# Altium footprint library TSSOP(PW).PcbLib: 37 footprints (part 1 of 3)
Each footprint in its own frame and in the unit in brackets; x right, y up, seen from the top. Pads: shape width x height; smd on the part's side, far side on the other; paste and mask are expansions set on the pad; w line width, h text height; cw(c..) or ccw(c..) is an arc to the next point about the centre after c.
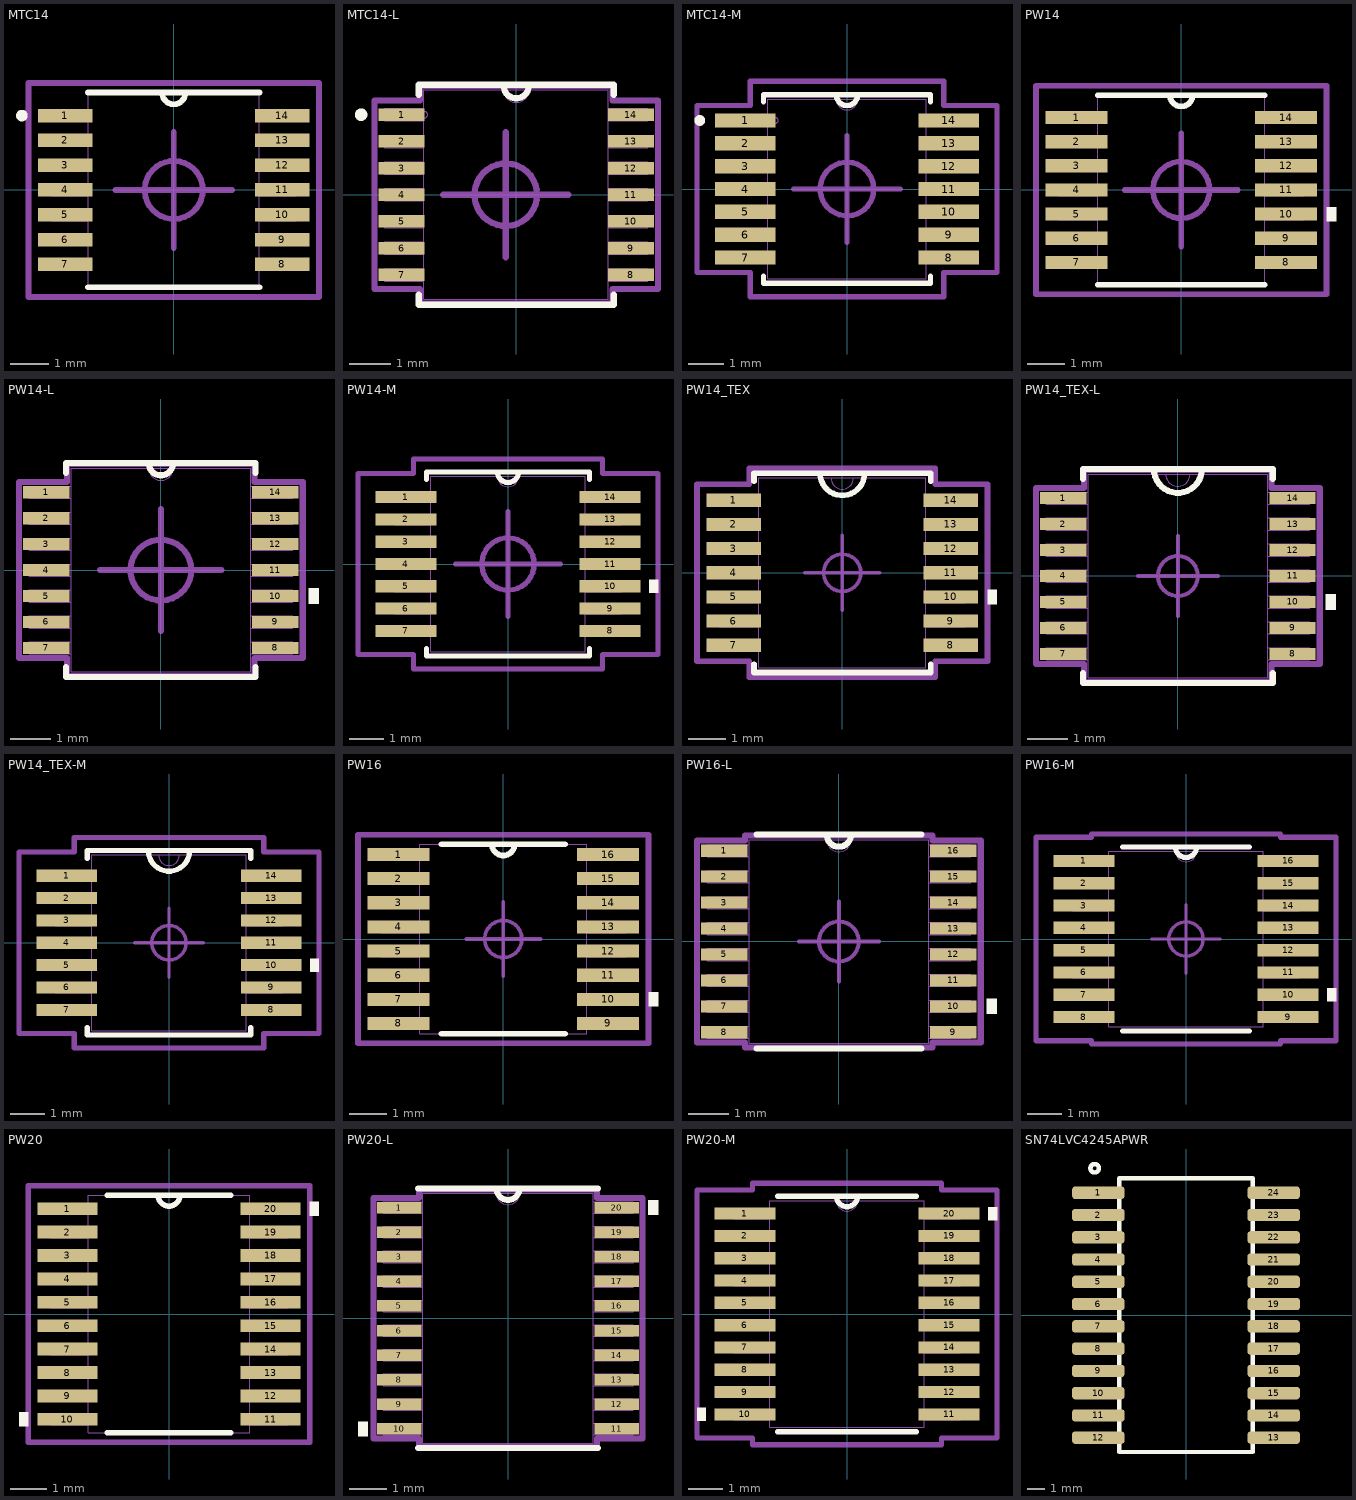
[diagram p0: the footprints below, top view; thin cyan lines are the x and y axes]

## MTC14 [mil]
pads (14):
  rect 56x14 smd: 1(-112,76.77) 2(-112,51.18) 3(-112,25.59) 4(-112,0) 5(-112,-25.59) 6(-112,-51.18) 7(-112,-76.77) 8(112,-76.77) 9(112,-51.18) 10(112,-25.59) 11(112,0) 12(112,25.59) 13(112,51.18) 14(112,76.77)
Top Overlay:
  circle w6: c-156.8,76.77 r3
  lines w6: -88.5,-100.5 88.5,-100.5 ; -88.5,100.5 88.5,100.5 ; -12,100.5 ccw(c0,100.5) 12,100.5
Mechanical 13:
  circle w0: c-156.8,76.77 r3
  lines w0: -12,100.5 ccw(c0,100.5) 12,100.5
  lines w1: -126,-82.77 -88.5,-82.77 -88.5,-70.77 -126,-70.77 -126,-82.77 ; -126,-57.18 -88.5,-57.18 -88.5,-45.18 -126,-45.18 -126,-57.18 ; -126,-31.59 -88.5,-31.59 -88.5,-19.59 -126,-19.59 -126,-31.59 ; -126,-6 -88.5,-6 -88.5,6 -126,6 -126,-6 ; -126,19.59 -88.5,19.59 -88.5,31.59 -126,31.59 -126,19.59 ; -126,45.18 -88.5,45.18 -88.5,57.18 -126,57.18 -126,45.18 ; -126,70.77 -88.5,70.77 -88.5,82.77 -126,82.77 -126,70.77 ; -88.5,-100.5 -88.5,100.5 88.5,100.5 88.5,-100.5 -88.5,-100.5 ; 88.5,-82.77 126,-82.77 126,-70.77 88.5,-70.77 88.5,-82.77 ; 88.5,-57.18 126,-57.18 126,-45.18 88.5,-45.18 88.5,-57.18 ; 88.5,-31.59 126,-31.59 126,-19.59 88.5,-19.59 88.5,-31.59 ; 88.5,-6 126,-6 126,6 88.5,6 88.5,-6 ; 88.5,19.59 126,19.59 126,31.59 88.5,31.59 88.5,19.59 ; 88.5,45.18 126,45.18 126,57.18 88.5,57.18 88.5,45.18 ; 88.5,70.77 126,70.77 126,82.77 88.5,82.77 88.5,70.77
Mechanical 15:
  circle w6: c0,0 r30
  lines w6: -60,0 60,0 ; 0,-60 0,60 ; -150,-110.5 150,-110.5 150,110.5 -150,110.5 -150,-110.5
3D body "MTC14.step": height 43.11, standoff 0, extent -125.98,-100.51 125.99,100.52

## MTC14-L [mil]
pads (14):
  rect 44x12 smd: 1(-110,76.77) 2(-110,51.18) 3(-110,25.59) 4(-110,0) 5(-110,-25.59) 6(-110,-51.18) 7(-110,-76.77) 8(110,-76.77) 9(110,-51.18) 10(110,-25.59) 11(110,0) 12(110,25.59) 13(110,51.18) 14(110,76.77)
Top Overlay:
  circle w6: c-148.8,76.77 r3
  lines w6: -93.5,-95.87 -93.5,-105.5 93.5,-105.5 93.5,-95.87 ; -93.5,95.87 -93.5,105.5 93.5,105.5 93.5,95.87 ; -12,104.5 ccw(c0,104.5) 12,104.5
Mechanical 13:
  circle w0: c-88,76.77 r3
  lines w0: -12,100.5 ccw(c0,100.5) 12,100.5
  lines w1: -126,-82.77 -88.5,-82.77 -88.5,-70.77 -126,-70.77 -126,-82.77 ; -126,-57.18 -88.5,-57.18 -88.5,-45.18 -126,-45.18 -126,-57.18 ; -126,-31.59 -88.5,-31.59 -88.5,-19.59 -126,-19.59 -126,-31.59 ; -126,-6 -88.5,-6 -88.5,6 -126,6 -126,-6 ; -126,19.59 -88.5,19.59 -88.5,31.59 -126,31.59 -126,19.59 ; -126,45.18 -88.5,45.18 -88.5,57.18 -126,57.18 -126,45.18 ; -126,70.77 -88.5,70.77 -88.5,82.77 -126,82.77 -126,70.77 ; -88.5,-100.5 -88.5,100.5 88.5,100.5 88.5,-100.5 -88.5,-100.5 ; 88.5,-82.77 126,-82.77 126,-70.77 88.5,-70.77 88.5,-82.77 ; 88.5,-57.18 126,-57.18 126,-45.18 88.5,-45.18 88.5,-57.18 ; 88.5,-31.59 126,-31.59 126,-19.59 88.5,-19.59 88.5,-31.59 ; 88.5,-6 126,-6 126,6 88.5,6 88.5,-6 ; 88.5,19.59 126,19.59 126,31.59 88.5,31.59 88.5,19.59 ; 88.5,45.18 126,45.18 126,57.18 88.5,57.18 88.5,45.18 ; 88.5,70.77 126,70.77 126,82.77 88.5,82.77 88.5,70.77
Mechanical 15:
  circle w6: c-10,0 r30
  lines w6: -70,0 50,0 ; -10,-60 -10,60 ; -136,-90.37 -92.5,-90.37 -92.5,-104.5 92.5,-104.5 92.5,-90.37 136,-90.37 136,90.37 92.5,90.37 92.5,104.5 -92.5,104.5 -92.5,90.37 -136,90.37 -136,-90.37
3D body "MTC14.step": height 43.11, standoff 0, extent -125.98,-100.51 125.99,100.52

## MTC14-M [mil]
pads (14):
  rect 68x16 smd: 1(-114,76.77) 2(-114,51.18) 3(-114,25.59) 4(-114,0) 5(-114,-25.59) 6(-114,-51.18) 7(-114,-76.77) 8(114,-76.77) 9(114,-51.18) 10(114,-25.59) 11(114,0) 12(114,25.59) 13(114,51.18) 14(114,76.77)
Top Overlay:
  circle w6: c-164.8,76.77 r3
  lines w6: -93.5,-97.87 -93.5,-105.5 93.5,-105.5 93.5,-97.87 ; -93.5,97.87 -93.5,105.5 93.5,105.5 93.5,97.87 ; -12,105.5 ccw(c0,105.5) 12,105.5
Mechanical 13:
  circle w0: c-80,76.77 r3
  lines w0: -12,100.5 ccw(c0,100.5) 12,100.5
  lines w1: -126,-82.77 -88.5,-82.77 -88.5,-70.77 -126,-70.77 -126,-82.77 ; -126,-57.18 -88.5,-57.18 -88.5,-45.18 -126,-45.18 -126,-57.18 ; -126,-31.59 -88.5,-31.59 -88.5,-19.59 -126,-19.59 -126,-31.59 ; -126,-6 -88.5,-6 -88.5,6 -126,6 -126,-6 ; -126,19.59 -88.5,19.59 -88.5,31.59 -126,31.59 -126,19.59 ; -126,45.18 -88.5,45.18 -88.5,57.18 -126,57.18 -126,45.18 ; -126,70.77 -88.5,70.77 -88.5,82.77 -126,82.77 -126,70.77 ; -88.5,-100.5 -88.5,100.5 88.5,100.5 88.5,-100.5 -88.5,-100.5 ; 88.5,-82.77 126,-82.77 126,-70.77 88.5,-70.77 88.5,-82.77 ; 88.5,-57.18 126,-57.18 126,-45.18 88.5,-45.18 88.5,-57.18 ; 88.5,-31.59 126,-31.59 126,-19.59 88.5,-19.59 88.5,-31.59 ; 88.5,-6 126,-6 126,6 88.5,6 88.5,-6 ; 88.5,19.59 126,19.59 126,31.59 88.5,31.59 88.5,19.59 ; 88.5,45.18 126,45.18 126,57.18 88.5,57.18 88.5,45.18 ; 88.5,70.77 126,70.77 126,82.77 88.5,82.77 88.5,70.77
Mechanical 15:
  circle w6: c0,0 r30
  lines w6: -60,0 60,0 ; 0,-60 0,60 ; -168,-93.57 -108.5,-93.57 -108.5,-120.5 108.5,-120.5 108.5,-93.57 168,-93.57 168,93.57 108.5,93.57 108.5,120.5 -108.5,120.5 -108.5,93.57 -168,93.57 -168,-93.57
3D body "MTC14.step": height 43.11, standoff 0, extent -125.98,-100.51 125.99,100.52

## PW14 [mil]
pads (14):
  rect 66x14 smd: 1(-111,76.77) 2(-111,51.18) 3(-111,25.59) 4(-111,0) 5(-111,-25.59) 6(-111,-51.18) 7(-111,-76.77) 8(111,-76.77) 9(111,-51.18) 10(111,-25.59) 11(111,0) 12(111,25.59) 13(111,51.18) 14(111,76.77)
Top Overlay:
  region: 154,-18.09 164,-18.09 164,-33.09 154,-33.09
  lines w6: -88.5,-100.5 88.5,-100.5 ; -88.5,100.5 88.5,100.5 ; -12,100.5 ccw(c0,100.5) 12,100.5
Mechanical 13:
  lines w0: -12,100.5 ccw(c0,100.5) 12,100.5
  lines w1: -130,-82.77 -88.5,-82.77 -88.5,-70.77 -130,-70.77 -130,-82.77 ; -130,-57.18 -88.5,-57.18 -88.5,-45.18 -130,-45.18 -130,-57.18 ; -130,-31.59 -88.5,-31.59 -88.5,-19.59 -130,-19.59 -130,-31.59 ; -130,-6 -88.5,-6 -88.5,6 -130,6 -130,-6 ; -130,19.59 -88.5,19.59 -88.5,31.59 -130,31.59 -130,19.59 ; -130,45.18 -88.5,45.18 -88.5,57.18 -130,57.18 -130,45.18 ; -130,70.77 -88.5,70.77 -88.5,82.77 -130,82.77 -130,70.77 ; -88.5,-100.5 -88.5,100.5 88.5,100.5 88.5,-100.5 -88.5,-100.5 ; 88.5,-82.77 130,-82.77 130,-70.77 88.5,-70.77 88.5,-82.77 ; 88.5,-57.18 130,-57.18 130,-45.18 88.5,-45.18 88.5,-57.18 ; 88.5,-31.59 130,-31.59 130,-19.59 88.5,-19.59 88.5,-31.59 ; 88.5,-6 130,-6 130,6 88.5,6 88.5,-6 ; 88.5,19.59 130,19.59 130,31.59 88.5,31.59 88.5,19.59 ; 88.5,45.18 130,45.18 130,57.18 88.5,57.18 88.5,45.18 ; 88.5,70.77 130,70.77 130,82.77 88.5,82.77 88.5,70.77
Mechanical 15:
  circle w6: c0,0 r30
  lines w6: -60,0 60,0 ; 0,-60 0,60 ; -154,-110.5 154,-110.5 154,110.5 -154,110.5 -154,-110.5
3D body "PW14.step": height 47.09, standoff 0, extent -130,-100.51 130,100.52

## PW14-L [mil]
pads (14):
  rect 46x12 smd: 1(-113,76.77) 2(-113,51.18) 3(-113,25.59) 4(-113,0) 5(-113,-25.59) 6(-113,-51.18) 7(-113,-76.77) 8(113,-76.77) 9(113,-51.18) 10(113,-25.59) 11(113,0) 12(113,25.59) 13(113,51.18) 14(113,76.77)
Top Overlay:
  region: 146,-18.09 156,-18.09 156,-33.09 146,-33.09
  lines w6: -93.5,-95.87 -93.5,-105.5 93.5,-105.5 93.5,-95.87 ; -93.5,95.87 -93.5,105.5 93.5,105.5 93.5,95.87 ; -12,105.5 ccw(c0,105.5) 12,105.5
Mechanical 13:
  lines w0: -12,100.5 ccw(c0,100.5) 12,100.5
  lines w1: -130,-82.77 -130,-70.77 -88.5,-70.77 -88.5,-82.77 -130,-82.77 ; -130,-57.18 -130,-45.18 -88.5,-45.18 -88.5,-57.18 -130,-57.18 ; -130,-31.59 -130,-19.59 -88.5,-19.59 -88.5,-31.59 -130,-31.59 ; -130,-6 -130,6 -88.5,6 -88.5,-6 -130,-6 ; -130,19.59 -130,31.59 -88.5,31.59 -88.5,19.59 -130,19.59 ; -130,45.18 -130,57.18 -88.5,57.18 -88.5,45.18 -130,45.18 ; -130,70.77 -130,82.77 -88.5,82.77 -88.5,70.77 -130,70.77 ; -88.5,-100.5 88.5,-100.5 88.5,100.5 -88.5,100.5 -88.5,-100.5 ; 88.5,-82.77 88.5,-70.77 130,-70.77 130,-82.77 88.5,-82.77 ; 88.5,-57.18 88.5,-45.18 130,-45.18 130,-57.18 88.5,-57.18 ; 88.5,-31.59 88.5,-19.59 130,-19.59 130,-31.59 88.5,-31.59 ; 88.5,-6 88.5,6 130,6 130,-6 88.5,-6 ; 88.5,19.59 88.5,31.59 130,31.59 130,19.59 88.5,19.59 ; 88.5,45.18 88.5,57.18 130,57.18 130,45.18 88.5,45.18 ; 88.5,70.77 88.5,82.77 130,82.77 130,70.77 88.5,70.77
Mechanical 15:
  circle w6: c0,0 r30
  lines w6: -60,0 60,0 ; 0,-60 0,60 ; -140,-86.77 -140,86.77 -92.5,86.77 -92.5,104.5 92.5,104.5 92.5,86.77 140,86.77 140,-86.77 92.5,-86.77 92.5,-104.5 -92.5,-104.5 -92.5,-86.77 -140,-86.77
3D body "PW14.step": height 47.09, standoff 0, extent -130,-100.51 130,100.52

## PW14-M [mil]
pads (14):
  rect 70x14 smd: 1(-117,76.77) 2(-117,51.18) 3(-117,25.59) 4(-117,0) 5(-117,-25.59) 6(-117,-51.18) 7(-117,-76.77) 8(117,-76.77) 9(117,-51.18) 10(117,-25.59) 11(117,0) 12(117,25.59) 13(117,51.18) 14(117,76.77)
Top Overlay:
  region: 162,-18.09 172,-18.09 172,-33.09 162,-33.09
  lines w6: -93.5,-96.87 -93.5,-105.5 93.5,-105.5 93.5,-96.87 ; -93.5,96.87 -93.5,105.5 93.5,105.5 93.5,96.87 ; -12,105.5 ccw(c0,105.5) 12,105.5
Mechanical 13:
  lines w0: -12,100.5 ccw(c0,100.5) 12,100.5
  lines w1: -130,-82.77 -88.5,-82.77 -88.5,-70.77 -130,-70.77 -130,-82.77 ; -130,-57.18 -88.5,-57.18 -88.5,-45.18 -130,-45.18 -130,-57.18 ; -130,-31.59 -88.5,-31.59 -88.5,-19.59 -130,-19.59 -130,-31.59 ; -130,-6 -88.5,-6 -88.5,6 -130,6 -130,-6 ; -130,19.59 -88.5,19.59 -88.5,31.59 -130,31.59 -130,19.59 ; -130,45.18 -88.5,45.18 -88.5,57.18 -130,57.18 -130,45.18 ; -130,70.77 -88.5,70.77 -88.5,82.77 -130,82.77 -130,70.77 ; -88.5,-100.5 -88.5,100.5 88.5,100.5 88.5,-100.5 -88.5,-100.5 ; 88.5,-82.77 130,-82.77 130,-70.77 88.5,-70.77 88.5,-82.77 ; 88.5,-57.18 130,-57.18 130,-45.18 88.5,-45.18 88.5,-57.18 ; 88.5,-31.59 130,-31.59 130,-19.59 88.5,-19.59 88.5,-31.59 ; 88.5,-6 130,-6 130,6 88.5,6 88.5,-6 ; 88.5,19.59 130,19.59 130,31.59 88.5,31.59 88.5,19.59 ; 88.5,45.18 130,45.18 130,57.18 88.5,57.18 88.5,45.18 ; 88.5,70.77 130,70.77 130,82.77 88.5,82.77 88.5,70.77
Mechanical 15:
  circle w6: c0,0 r30
  lines w6: -60,0 60,0 ; 0,-60 0,60 ; -172,-103.77 -108.5,-103.77 -108.5,-120.5 108.5,-120.5 108.5,-103.77 172,-103.77 172,103.77 108.5,103.77 108.5,120.5 -108.5,120.5 -108.5,103.77 -172,103.77 -172,-103.77
3D body "PW14.step": height 47.09, standoff 0, extent -130,-100.51 130,100.52

## PW14_TEX [mil]
pads (14):
  rect 57.56x13.97 smd: 1(-115,76.77) 2(-115,51.18) 3(-115,25.59) 4(-115,0) 5(-115,-25.59) 6(-115,-51.18) 7(-115,-76.77) 8(115,-76.77) 9(115,-51.18) 10(115,-25.59) 11(115,0) 12(115,25.59) 13(115,51.18) 14(115,76.77)
Top Overlay:
  region: 153.78,-18.09 163.78,-18.09 163.78,-33.09 153.78,-33.09
  lines w5.98: -23.62,105.5 ccw(c0,105.5) 23.62,105.5
  lines w6: -93.5,-96.86 -93.5,-105.5 93.5,-105.5 93.5,-96.86 ; -93.5,96.86 -93.5,105.5 93.5,105.5 93.5,96.86
Mechanical 13:
  lines w0: -12,100.5 ccw(c0,100.5) 12,100.5
  lines w1: -130,-82.77 -130,-70.77 -88.5,-70.77 -88.5,-82.77 -130,-82.77 ; -130,-57.18 -130,-45.18 -88.5,-45.18 -88.5,-57.18 -130,-57.18 ; -130,-31.59 -130,-19.59 -88.5,-19.59 -88.5,-31.59 -130,-31.59 ; -130,-6 -130,6 -88.5,6 -88.5,-6 -130,-6 ; -130,19.59 -130,31.59 -88.5,31.59 -88.5,19.59 -130,19.59 ; -130,45.18 -130,57.18 -88.5,57.18 -88.5,45.18 -130,45.18 ; -130,70.77 -130,82.77 -88.5,82.77 -88.5,70.77 -130,70.77 ; -88.5,-100.5 88.5,-100.5 88.5,100.5 -88.5,100.5 -88.5,-100.5 ; 88.5,-82.77 88.5,-70.77 130,-70.77 130,-82.77 88.5,-82.77 ; 88.5,-57.18 88.5,-45.18 130,-45.18 130,-57.18 88.5,-57.18 ; 88.5,-31.59 88.5,-19.59 130,-19.59 130,-31.59 88.5,-31.59 ; 88.5,-6 88.5,6 130,6 130,-6 88.5,-6 ; 88.5,19.59 88.5,31.59 130,31.59 130,19.59 88.5,19.59 ; 88.5,45.18 88.5,57.18 130,57.18 130,45.18 88.5,45.18 ; 88.5,70.77 88.5,82.77 130,82.77 130,70.77 88.5,70.77
Mechanical 15:
  circle w3.94: c0,0 r19.68
  lines w3.94: -39.37,0 0,0 ; 0,-39.37 0,0 ; 0,39.37 0,0 ; 39.37,0 0,0
  lines w6: -153.78,-93.76 -153.78,93.76 -98.5,93.76 -98.5,110.5 98.5,110.5 98.5,93.76 153.78,93.76 153.78,-93.76 98.5,-93.76 98.5,-110.5 -98.5,-110.5 -98.5,-93.76 -153.78,-93.76
3D body "PW14_TEX.step": height 47.09, standoff 0, extent -129.99,-100.51 130.01,100.52

## PW14_TEX-L [mil]
pads (14):
  rect 45.75x12 smd: 1(-113.03,76.77) 2(-113.03,51.18) 3(-113.03,25.59) 4(-113.03,0) 5(-113.03,-25.59) 6(-113.03,-51.18) 7(-113.03,-76.77) 8(113.03,-76.77) 9(113.03,-51.18) 10(113.03,-25.59) 11(113.03,0) 12(113.03,25.59) 13(113.03,51.18) 14(113.03,76.77)
Top Overlay:
  region: 145.91,-18.09 155.91,-18.09 155.91,-33.09 145.91,-33.09
  lines w5.98: -23.62,105.5 ccw(c0,105.5) 23.62,105.5
  lines w6: -93.5,-95.87 -93.5,-105.5 93.5,-105.5 93.5,-95.87 ; -93.5,95.87 -93.5,105.5 93.5,105.5 93.5,95.87
Mechanical 13:
  lines w0: -12,100.5 ccw(c0,100.5) 12,100.5
  lines w1: -130,-82.77 -130,-70.77 -88.5,-70.77 -88.5,-82.77 -130,-82.77 ; -130,-57.18 -130,-45.18 -88.5,-45.18 -88.5,-57.18 -130,-57.18 ; -130,-31.59 -130,-19.59 -88.5,-19.59 -88.5,-31.59 -130,-31.59 ; -130,-6 -130,6 -88.5,6 -88.5,-6 -130,-6 ; -130,19.59 -130,31.59 -88.5,31.59 -88.5,19.59 -130,19.59 ; -130,45.18 -130,57.18 -88.5,57.18 -88.5,45.18 -130,45.18 ; -130,70.77 -130,82.77 -88.5,82.77 -88.5,70.77 -130,70.77 ; -88.5,-100.5 88.5,-100.5 88.5,100.5 -88.5,100.5 -88.5,-100.5 ; 88.5,-82.77 88.5,-70.77 130,-70.77 130,-82.77 88.5,-82.77 ; 88.5,-57.18 88.5,-45.18 130,-45.18 130,-57.18 88.5,-57.18 ; 88.5,-31.59 88.5,-19.59 130,-19.59 130,-31.59 88.5,-31.59 ; 88.5,-6 88.5,6 130,6 130,-6 88.5,-6 ; 88.5,19.59 88.5,31.59 130,31.59 130,19.59 88.5,19.59 ; 88.5,45.18 88.5,57.18 130,57.18 130,45.18 88.5,45.18 ; 88.5,70.77 88.5,82.77 130,82.77 130,70.77 88.5,70.77
Mechanical 15:
  circle w3.94: c0,0 r19.68
  lines w3.94: -39.37,0 0,0 ; 0,-39.37 0,0 ; 0,39.37 0,0 ; 39.37,0 0,0
  lines w6: -139.91,-86.77 -139.91,86.77 -92.5,86.77 -92.5,104.5 92.5,104.5 92.5,86.77 139.91,86.77 139.91,-86.77 92.5,-86.77 92.5,-104.5 -92.5,-104.5 -92.5,-86.77 -139.91,-86.77
3D body "PW14_TEX.step": height 47.09, standoff 0, extent -129.99,-100.51 130.01,100.52

## PW14_TEX-M [mm]
pads (14):
  rect 1.762x0.355 smd: 1(-2.971,1.95) 2(-2.971,1.3) 3(-2.971,0.65) 4(-2.971,0) 5(-2.971,-0.65) 6(-2.971,-1.3) 7(-2.971,-1.95) 8(2.971,-1.95) 9(2.971,-1.3) 10(2.971,-0.65) 11(2.971,0) 12(2.971,0.65) 13(2.971,1.3) 14(2.971,1.95)
Top Overlay:
  region: 4.106,-0.459 4.36,-0.459 4.36,-0.84 4.106,-0.84
  lines w0.152: -2.375,-2.46 -2.375,-2.68 2.375,-2.68 2.375,-2.46 ; -2.375,2.46 -2.375,2.68 2.375,2.68 2.375,2.46 ; -0.6,2.68 ccw(c0,2.68) 0.6,2.68
Mechanical 13:
  lines w0: -0.305,2.553 ccw(c0,2.553) 0.305,2.553
  lines w0.025: -3.302,-2.102 -2.248,-2.102 -2.248,-1.798 -3.302,-1.798 -3.302,-2.102 ; -3.302,-1.452 -2.248,-1.452 -2.248,-1.148 -3.302,-1.148 -3.302,-1.452 ; -3.302,-0.802 -2.248,-0.802 -2.248,-0.498 -3.302,-0.498 -3.302,-0.802 ; -3.302,-0.152 -2.248,-0.152 -2.248,0.152 -3.302,0.152 -3.302,-0.152 ; -3.302,0.498 -2.248,0.498 -2.248,0.802 -3.302,0.802 -3.302,0.498 ; -3.302,1.148 -2.248,1.148 -2.248,1.452 -3.302,1.452 -3.302,1.148 ; -3.302,1.798 -2.248,1.798 -2.248,2.102 -3.302,2.102 -3.302,1.798 ; -2.248,-2.553 -2.248,2.553 2.248,2.553 2.248,-2.553 -2.248,-2.553 ; 2.248,-2.102 3.302,-2.102 3.302,-1.798 2.248,-1.798 2.248,-2.102 ; 2.248,-1.452 3.302,-1.452 3.302,-1.148 2.248,-1.148 2.248,-1.452 ; 2.248,-0.802 3.302,-0.802 3.302,-0.498 2.248,-0.498 2.248,-0.802 ; 2.248,-0.152 3.302,-0.152 3.302,0.152 2.248,0.152 2.248,-0.152 ; 2.248,0.498 3.302,0.498 3.302,0.802 2.248,0.802 2.248,0.498 ; 2.248,1.148 3.302,1.148 3.302,1.452 2.248,1.452 2.248,1.148 ; 2.248,1.798 3.302,1.798 3.302,2.102 2.248,2.102 2.248,1.798
Mechanical 15:
  circle w0.1: c0,0 r0.5
  lines w0.1: -1,0 0,0 ; 0,-1 0,0 ; 0,1 0,0 ; 1,0 0,0
  lines w0.152: -4.36,-2.635 -2.756,-2.635 -2.756,-3.061 2.756,-3.061 2.756,-2.635 4.36,-2.635 4.36,2.635 2.756,2.635 2.756,3.061 -2.756,3.061 -2.756,2.635 -4.36,2.635 -4.36,-2.635
3D body "PW14_TEX.step": height 1.2, standoff 0, extent -3.302,-2.553 3.302,2.553

## PW16 [mil]
pads (16):
  rect 66x14 smd: 1(-111,89.57) 2(-111,63.98) 3(-111,38.39) 4(-111,12.8) 5(-111,-12.8) 6(-111,-38.39) 7(-111,-63.98) 8(-111,-89.57) 9(111,-89.57) 10(111,-63.98) 11(111,-38.39) 12(111,-12.8) 13(111,12.8) 14(111,38.39) 15(111,63.98) 16(111,89.57)
Top Overlay:
  region: 154,-56.48 164,-56.48 164,-71.48 154,-71.48
  lines w6: -65.5,-100.5 65.5,-100.5 ; -65.5,100.5 65.5,100.5 ; -12,100.5 ccw(c0,100.5) 12,100.5
Mechanical 13:
  lines w0: -12,100.5 ccw(c0,100.5) 12,100.5
  lines w1: -130,-95.57 -88.5,-95.57 -88.5,-83.57 -130,-83.57 -130,-95.57 ; -130,-69.98 -88.5,-69.98 -88.5,-57.98 -130,-57.98 -130,-69.98 ; -130,-44.39 -88.5,-44.39 -88.5,-32.39 -130,-32.39 -130,-44.39 ; -130,-18.8 -88.5,-18.8 -88.5,-6.8 -130,-6.8 -130,-18.8 ; -130,6.8 -88.5,6.8 -88.5,18.8 -130,18.8 -130,6.8 ; -130,32.39 -88.5,32.39 -88.5,44.39 -130,44.39 -130,32.39 ; -130,57.98 -88.5,57.98 -88.5,69.98 -130,69.98 -130,57.98 ; -130,83.57 -88.5,83.57 -88.5,95.57 -130,95.57 -130,83.57 ; -88.5,-100.5 -88.5,100.5 88.5,100.5 88.5,-100.5 -88.5,-100.5 ; 88.5,-95.57 130,-95.57 130,-83.57 88.5,-83.57 88.5,-95.57 ; 88.5,-69.98 130,-69.98 130,-57.98 88.5,-57.98 88.5,-69.98 ; 88.5,-44.39 130,-44.39 130,-32.39 88.5,-32.39 88.5,-44.39 ; 88.5,-18.8 130,-18.8 130,-6.8 88.5,-6.8 88.5,-18.8 ; 88.5,6.8 130,6.8 130,18.8 88.5,18.8 88.5,6.8 ; 88.5,32.39 130,32.39 130,44.39 88.5,44.39 88.5,32.39 ; 88.5,57.98 130,57.98 130,69.98 88.5,69.98 88.5,57.98 ; 88.5,83.57 130,83.57 130,95.57 88.5,95.57 88.5,83.57
Mechanical 15:
  circle w3.94: c0,0 r19.68
  lines w3.94: -39.37,0 0,0 ; 0,-39.37 0,0 ; 0,39.37 0,0 ; 39.37,0 0,0
  lines w6: -154,-110.5 154,-110.5 154,110.5 -154,110.5 -154,-110.5
3D body "PW16.step": height 47.09, standoff 0, extent -130,-100.51 130,100.52

## PW16-L [mil]
pads (16):
  rect 46x12 smd: 1(-113,89.57) 2(-113,63.98) 3(-113,38.39) 4(-113,12.8) 5(-113,-12.8) 6(-113,-38.39) 7(-113,-63.98) 8(-113,-89.57) 9(113,-89.57) 10(113,-63.98) 11(113,-38.39) 12(113,-12.8) 13(113,12.8) 14(113,38.39) 15(113,63.98) 16(113,89.57)
Top Overlay:
  region: 146,-56.48 156,-56.48 156,-71.48 146,-71.48
  lines w6: -81.46,-105.5 81.46,-105.5 ; -81.46,105.5 81.46,105.5 ; -12,105.5 ccw(c0,105.5) 12,105.5
Mechanical 13:
  lines w0: -12,100.5 ccw(c0,100.5) 12,100.5
  lines w1: -130,-95.57 -88.5,-95.57 -88.5,-83.57 -130,-83.57 -130,-95.57 ; -130,-69.98 -88.5,-69.98 -88.5,-57.98 -130,-57.98 -130,-69.98 ; -130,-44.39 -88.5,-44.39 -88.5,-32.39 -130,-32.39 -130,-44.39 ; -130,-18.8 -88.5,-18.8 -88.5,-6.8 -130,-6.8 -130,-18.8 ; -130,6.8 -88.5,6.8 -88.5,18.8 -130,18.8 -130,6.8 ; -130,32.39 -88.5,32.39 -88.5,44.39 -130,44.39 -130,32.39 ; -130,57.98 -88.5,57.98 -88.5,69.98 -130,69.98 -130,57.98 ; -130,83.57 -88.5,83.57 -88.5,95.57 -130,95.57 -130,83.57 ; -88.5,-100.5 -88.5,100.5 88.5,100.5 88.5,-100.5 -88.5,-100.5 ; 88.5,-95.57 130,-95.57 130,-83.57 88.5,-83.57 88.5,-95.57 ; 88.5,-69.98 130,-69.98 130,-57.98 88.5,-57.98 88.5,-69.98 ; 88.5,-44.39 130,-44.39 130,-32.39 88.5,-32.39 88.5,-44.39 ; 88.5,-18.8 130,-18.8 130,-6.8 88.5,-6.8 88.5,-18.8 ; 88.5,6.8 130,6.8 130,18.8 88.5,18.8 88.5,6.8 ; 88.5,32.39 130,32.39 130,44.39 88.5,44.39 88.5,32.39 ; 88.5,57.98 130,57.98 130,69.98 88.5,69.98 88.5,57.98 ; 88.5,83.57 130,83.57 130,95.57 88.5,95.57 88.5,83.57
Mechanical 15:
  circle w3.94: c0,0 r19.68
  lines w3.94: -39.37,0 0,0 ; 0,-39.37 0,0 ; 0,39.37 0,0 ; 39.37,0 0,0
  lines w6: -140,-99.57 -92.5,-99.57 -92.5,-104.5 92.5,-104.5 92.5,-99.57 140,-99.57 140,99.57 92.5,99.57 92.5,104.5 -92.5,104.5 -92.5,99.57 -140,99.57 -140,-99.57
3D body "PW16.step": height 47.09, standoff 0, extent -130,-100.51 130,100.52

## PW16-M [mil]
pads (16):
  rect 70x14 smd: 1(-117,89.57) 2(-117,63.98) 3(-117,38.39) 4(-117,12.8) 5(-117,-12.8) 6(-117,-38.39) 7(-117,-63.98) 8(-117,-89.57) 9(117,-89.57) 10(117,-63.98) 11(117,-38.39) 12(117,-12.8) 13(117,12.8) 14(117,38.39) 15(117,63.98) 16(117,89.57)
Top Overlay:
  region: 162,-56.48 172,-56.48 172,-71.48 162,-71.48
  lines w6: -72.42,-105.5 72.42,-105.5 ; -72.42,105.5 72.42,105.5 ; -12,105.5 ccw(c0,105.5) 12,105.5
Mechanical 13:
  lines w0: -12,100.5 ccw(c0,100.5) 12,100.5
  lines w1: -130,-95.57 -88.5,-95.57 -88.5,-83.57 -130,-83.57 -130,-95.57 ; -130,-69.98 -88.5,-69.98 -88.5,-57.98 -130,-57.98 -130,-69.98 ; -130,-44.39 -88.5,-44.39 -88.5,-32.39 -130,-32.39 -130,-44.39 ; -130,-18.8 -88.5,-18.8 -88.5,-6.8 -130,-6.8 -130,-18.8 ; -130,6.8 -88.5,6.8 -88.5,18.8 -130,18.8 -130,6.8 ; -130,32.39 -88.5,32.39 -88.5,44.39 -130,44.39 -130,32.39 ; -130,57.98 -88.5,57.98 -88.5,69.98 -130,69.98 -130,57.98 ; -130,83.57 -88.5,83.57 -88.5,95.57 -130,95.57 -130,83.57 ; -88.5,-100.5 -88.5,100.5 88.5,100.5 88.5,-100.5 -88.5,-100.5 ; 88.5,-95.57 130,-95.57 130,-83.57 88.5,-83.57 88.5,-95.57 ; 88.5,-69.98 130,-69.98 130,-57.98 88.5,-57.98 88.5,-69.98 ; 88.5,-44.39 130,-44.39 130,-32.39 88.5,-32.39 88.5,-44.39 ; 88.5,-18.8 130,-18.8 130,-6.8 88.5,-6.8 88.5,-18.8 ; 88.5,6.8 130,6.8 130,18.8 88.5,18.8 88.5,6.8 ; 88.5,32.39 130,32.39 130,44.39 88.5,44.39 88.5,32.39 ; 88.5,57.98 130,57.98 130,69.98 88.5,69.98 88.5,57.98 ; 88.5,83.57 130,83.57 130,95.57 88.5,95.57 88.5,83.57
Mechanical 15:
  circle w3.94: c0,0 r19.68
  lines w3.94: -39.37,0 0,0 ; 0,-39.37 0,0 ; 0,39.37 0,0 ; 39.37,0 0,0
  lines w6: -172,-116.57 -108.5,-116.57 -108.5,-120.5 108.5,-120.5 108.5,-116.57 172,-116.57 172,116.57 108.5,116.57 108.5,120.5 -108.5,120.5 -108.5,116.57 -172,116.57 -172,-116.57
3D body "PW16.step": height 47.09, standoff 0, extent -130,-100.51 130,100.52

## PW20 [mil]
pads (20):
  rect 66x14 smd: 1(-111,115.16) 2(-111,89.57) 3(-111,63.98) 4(-111,38.39) 5(-111,12.8) 6(-111,-12.8) 7(-111,-38.39) 8(-111,-63.98) 9(-111,-89.57) 10(-111,-115.16) 11(111,-115.16) 12(111,-89.57) 13(111,-63.98) 14(111,-38.39) 15(111,-12.8) 16(111,12.8) 17(111,38.39) 18(111,63.98) 19(111,89.57) 20(111,115.16)
Top Overlay:
  region: 154,122.66 164,122.66 164,107.66 154,107.66
  region: -154,-107.66 -164,-107.66 -164,-122.66 -154,-122.66
  lines w6: -67.51,-130 67.51,-130 ; -67.51,130 67.51,130 ; -12,130 ccw(c0,130) 12,130
Mechanical 13:
  lines w0: -12,130 ccw(c0,130) 12,130
  lines w1: -130,-121.16 -88.5,-121.16 -88.5,-109.16 -130,-109.16 -130,-121.16 ; -130,-95.57 -88.5,-95.57 -88.5,-83.57 -130,-83.57 -130,-95.57 ; -130,-69.98 -88.5,-69.98 -88.5,-57.98 -130,-57.98 -130,-69.98 ; -130,-44.39 -88.5,-44.39 -88.5,-32.39 -130,-32.39 -130,-44.39 ; -130,-18.8 -88.5,-18.8 -88.5,-6.8 -130,-6.8 -130,-18.8 ; -130,6.8 -88.5,6.8 -88.5,18.8 -130,18.8 -130,6.8 ; -130,32.39 -88.5,32.39 -88.5,44.39 -130,44.39 -130,32.39 ; -130,57.98 -88.5,57.98 -88.5,69.98 -130,69.98 -130,57.98 ; -130,83.57 -88.5,83.57 -88.5,95.57 -130,95.57 -130,83.57 ; -130,109.16 -88.5,109.16 -88.5,121.16 -130,121.16 -130,109.16 ; -88.5,-130 -88.5,130 88.5,130 88.5,-130 -88.5,-130 ; 88.5,-121.16 130,-121.16 130,-109.16 88.5,-109.16 88.5,-121.16 ; 88.5,-95.57 130,-95.57 130,-83.57 88.5,-83.57 88.5,-95.57 ; 88.5,-69.98 130,-69.98 130,-57.98 88.5,-57.98 88.5,-69.98 ; 88.5,-44.39 130,-44.39 130,-32.39 88.5,-32.39 88.5,-44.39 ; 88.5,-18.8 130,-18.8 130,-6.8 88.5,-6.8 88.5,-18.8 ; 88.5,6.8 130,6.8 130,18.8 88.5,18.8 88.5,6.8 ; 88.5,32.39 130,32.39 130,44.39 88.5,44.39 88.5,32.39 ; 88.5,57.98 130,57.98 130,69.98 88.5,69.98 88.5,57.98 ; 88.5,83.57 130,83.57 130,95.57 88.5,95.57 88.5,83.57 ; 88.5,109.16 130,109.16 130,121.16 88.5,121.16 88.5,109.16
Mechanical 15:
  lines w6: -154,-140 154,-140 154,140 -154,140 -154,-140
3D body "PW20.step": height 47.09, standoff 0, extent -130,-130 130,130

## PW20-L [mil]
pads (20):
  rect 46x12 smd: 1(-113,115.16) 2(-113,89.57) 3(-113,63.98) 4(-113,38.39) 5(-113,12.8) 6(-113,-12.8) 7(-113,-38.39) 8(-113,-63.98) 9(-113,-89.57) 10(-113,-115.16) 11(113,-115.16) 12(113,-89.57) 13(113,-63.98) 14(113,-38.39) 15(113,-12.8) 16(113,12.8) 17(113,38.39) 18(113,63.98) 19(113,89.57) 20(113,115.16)
Top Overlay:
  region: 146,122.66 156,122.66 156,107.66 146,107.66
  region: -146,-107.66 -156,-107.66 -156,-122.66 -146,-122.66
  lines w6: -93.5,-135 93.5,-135 ; -93.5,135 93.5,135 ; -12,135 ccw(c0,135) 12,135
Mechanical 13:
  lines w0: -12,130 ccw(c0,130) 12,130
  lines w1: -130,-121.16 -88.5,-121.16 -88.5,-109.16 -130,-109.16 -130,-121.16 ; -130,-95.57 -88.5,-95.57 -88.5,-83.57 -130,-83.57 -130,-95.57 ; -130,-69.98 -88.5,-69.98 -88.5,-57.98 -130,-57.98 -130,-69.98 ; -130,-44.39 -88.5,-44.39 -88.5,-32.39 -130,-32.39 -130,-44.39 ; -130,-18.8 -88.5,-18.8 -88.5,-6.8 -130,-6.8 -130,-18.8 ; -130,6.8 -88.5,6.8 -88.5,18.8 -130,18.8 -130,6.8 ; -130,32.39 -88.5,32.39 -88.5,44.39 -130,44.39 -130,32.39 ; -130,57.98 -88.5,57.98 -88.5,69.98 -130,69.98 -130,57.98 ; -130,83.57 -88.5,83.57 -88.5,95.57 -130,95.57 -130,83.57 ; -130,109.16 -88.5,109.16 -88.5,121.16 -130,121.16 -130,109.16 ; -88.5,-130 -88.5,130 88.5,130 88.5,-130 -88.5,-130 ; 88.5,-121.16 130,-121.16 130,-109.16 88.5,-109.16 88.5,-121.16 ; 88.5,-95.57 130,-95.57 130,-83.57 88.5,-83.57 88.5,-95.57 ; 88.5,-69.98 130,-69.98 130,-57.98 88.5,-57.98 88.5,-69.98 ; 88.5,-44.39 130,-44.39 130,-32.39 88.5,-32.39 88.5,-44.39 ; 88.5,-18.8 130,-18.8 130,-6.8 88.5,-6.8 88.5,-18.8 ; 88.5,6.8 130,6.8 130,18.8 88.5,18.8 88.5,6.8 ; 88.5,32.39 130,32.39 130,44.39 88.5,44.39 88.5,32.39 ; 88.5,57.98 130,57.98 130,69.98 88.5,69.98 88.5,57.98 ; 88.5,83.57 130,83.57 130,95.57 88.5,95.57 88.5,83.57 ; 88.5,109.16 130,109.16 130,121.16 88.5,121.16 88.5,109.16
Mechanical 15:
  lines w6: -140,-125.16 -92.5,-125.16 -92.5,-134 92.5,-134 92.5,-125.16 140,-125.16 140,125.16 92.5,125.16 92.5,134 -92.5,134 -92.5,125.16 -140,125.16 -140,-125.16
3D body "PW20.step": height 47.09, standoff 0, extent -130,-130 130,130

## PW20-M [mil]
pads (20):
  rect 70x14 smd: 1(-117,115.16) 2(-117,89.57) 3(-117,63.98) 4(-117,38.39) 5(-117,12.8) 6(-117,-12.8) 7(-117,-38.39) 8(-117,-63.98) 9(-117,-89.57) 10(-117,-115.16) 11(117,-115.16) 12(117,-89.57) 13(117,-63.98) 14(117,-38.39) 15(117,-12.8) 16(117,12.8) 17(117,38.39) 18(117,63.98) 19(117,89.57) 20(117,115.16)
Top Overlay:
  region: 162,122.66 172,122.66 172,107.66 162,107.66
  region: -162,-107.66 -172,-107.66 -172,-122.66 -162,-122.66
  lines w6: -79.42,-135 79.42,-135 ; -79.42,135 79.42,135 ; -12,135 ccw(c0,135) 12,135
Mechanical 13:
  lines w0: -12,130 ccw(c0,130) 12,130
  lines w1: -130,-121.16 -88.5,-121.16 -88.5,-109.16 -130,-109.16 -130,-121.16 ; -130,-95.57 -88.5,-95.57 -88.5,-83.57 -130,-83.57 -130,-95.57 ; -130,-69.98 -88.5,-69.98 -88.5,-57.98 -130,-57.98 -130,-69.98 ; -130,-44.39 -88.5,-44.39 -88.5,-32.39 -130,-32.39 -130,-44.39 ; -130,-18.8 -88.5,-18.8 -88.5,-6.8 -130,-6.8 -130,-18.8 ; -130,6.8 -88.5,6.8 -88.5,18.8 -130,18.8 -130,6.8 ; -130,32.39 -88.5,32.39 -88.5,44.39 -130,44.39 -130,32.39 ; -130,57.98 -88.5,57.98 -88.5,69.98 -130,69.98 -130,57.98 ; -130,83.57 -88.5,83.57 -88.5,95.57 -130,95.57 -130,83.57 ; -130,109.16 -88.5,109.16 -88.5,121.16 -130,121.16 -130,109.16 ; -88.5,-130 -88.5,130 88.5,130 88.5,-130 -88.5,-130 ; 88.5,-121.16 130,-121.16 130,-109.16 88.5,-109.16 88.5,-121.16 ; 88.5,-95.57 130,-95.57 130,-83.57 88.5,-83.57 88.5,-95.57 ; 88.5,-69.98 130,-69.98 130,-57.98 88.5,-57.98 88.5,-69.98 ; 88.5,-44.39 130,-44.39 130,-32.39 88.5,-32.39 88.5,-44.39 ; 88.5,-18.8 130,-18.8 130,-6.8 88.5,-6.8 88.5,-18.8 ; 88.5,6.8 130,6.8 130,18.8 88.5,18.8 88.5,6.8 ; 88.5,32.39 130,32.39 130,44.39 88.5,44.39 88.5,32.39 ; 88.5,57.98 130,57.98 130,69.98 88.5,69.98 88.5,57.98 ; 88.5,83.57 130,83.57 130,95.57 88.5,95.57 88.5,83.57 ; 88.5,109.16 130,109.16 130,121.16 88.5,121.16 88.5,109.16
Mechanical 15:
  lines w6: -172,-142.16 -108.5,-142.16 -108.5,-150 108.5,-150 108.5,-142.16 172,-142.16 172,142.16 108.5,142.16 108.5,150 -108.5,150 -108.5,142.16 -172,142.16 -172,-142.16
3D body "PW20.step": height 47.09, standoff 0, extent -130,-130 130,130

## SN74LVC4245APWR [mm]
pads (24):
  rrect50% 3x0.7 smd: 1(-5,6.985) 2(-5,5.715) 3(-5,4.445) 4(-5,3.175) 5(-5,1.905) 6(-5,0.635) 7(-5,-0.635) 8(-5,-1.905) 9(-5,-3.175) 10(-5,-4.445) 11(-5,-5.715) 12(-5,-6.985) 13(5,-6.985) 14(5,-5.715) 15(5,-4.445) 16(5,-3.175) 17(5,-1.905) 18(5,-0.635) 19(5,0.635) 20(5,1.905) 21(5,3.175) 22(5,4.445) 23(5,5.715) 24(5,6.985)
Top Overlay:
  circle w0.254: c-5.207,8.382 r0.243
  lines w0.254: -3.8,-7.8 -3.8,7.8 3.8,7.8 3.8,-7.8 -3.8,-7.8